# EAGLE library part SC4501 (library Custom_old)
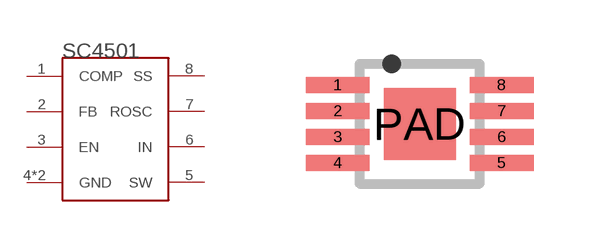
[diagram p12: symbol with the pads of MSOP8-EP; footprint MSOP8-EP]

Designator prefix -

## SC4501  [MSOP8-EP]
1  COMP
2  FB
3  EN
4  GND
5  SW
6  IN
7  ROSC
8  SS
PAD  GND

## Footprint MSOP8-EP (pad centres in mm)
smd 1.6 x 0.4: 1 -2.05,0.975; 2 -2.05,0.325; 3 -2.05,-0.325; 4 -2.05,-0.975; 5 2.05,-0.975; 6 2.05,-0.325; 7 2.05,0.325; 8 2.05,0.975
smd 1.8 x 1.8: PAD 0,0